# Altium schematic symbol library GpioPowerAddonLib.SchLib: 29 symbols
Pins are listed as number, name and electrical type; pins without a type are passive.

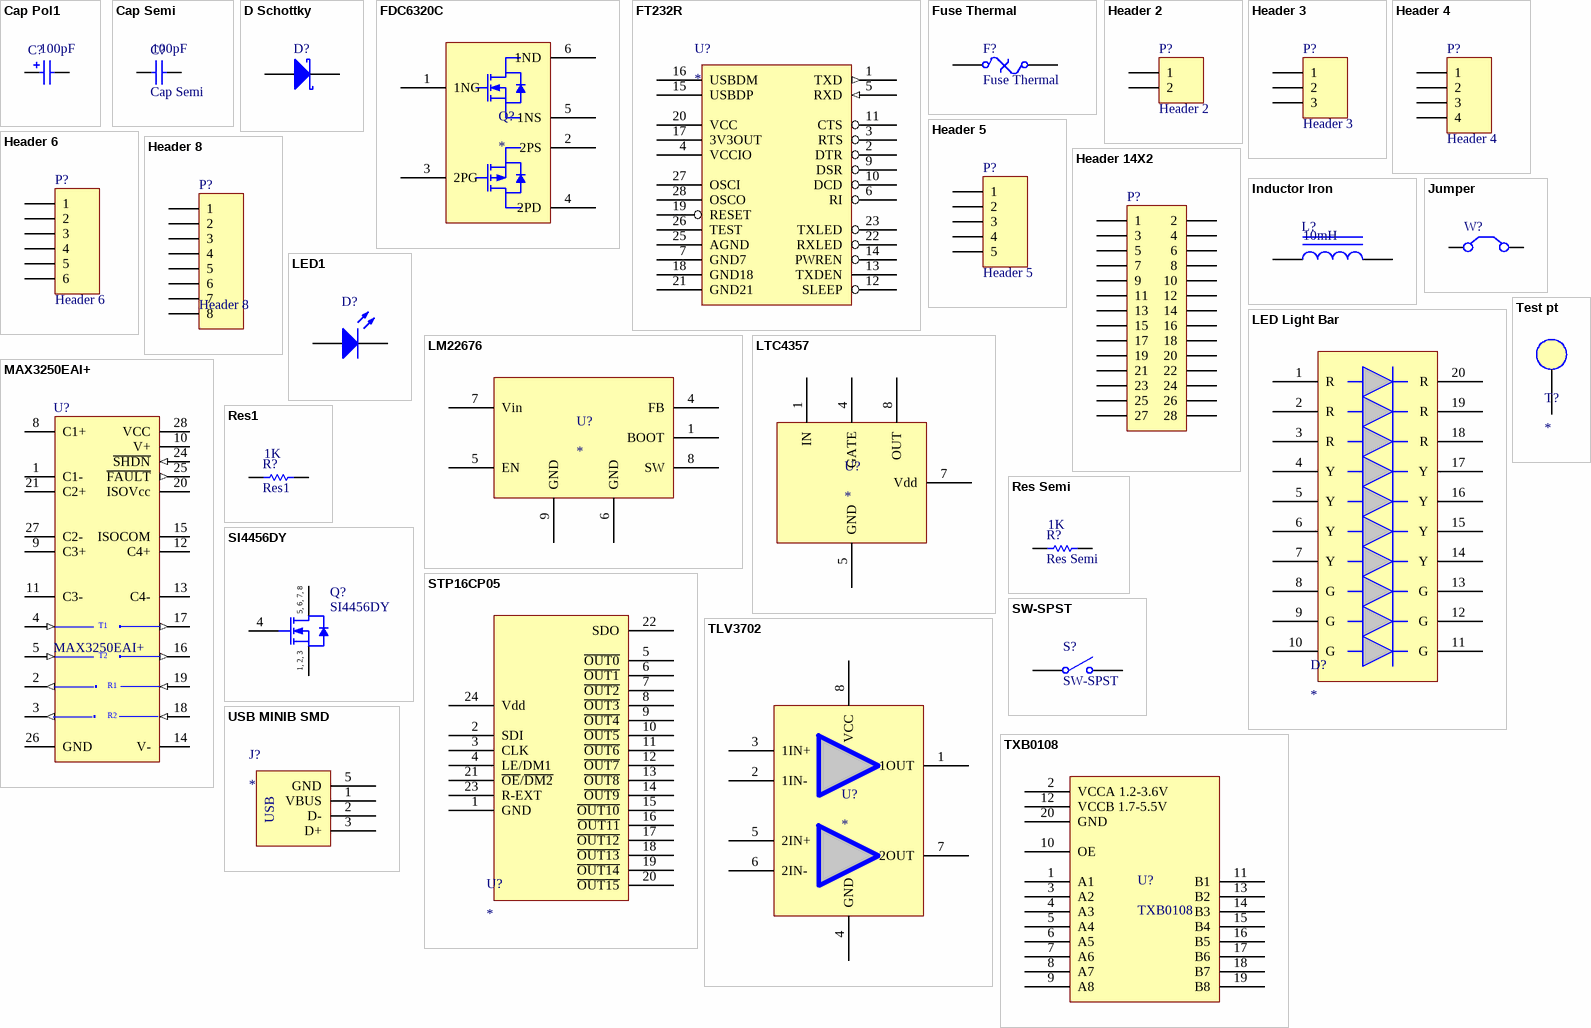
[diagram p0: symbols Cap Pol1 to USB MINIB SMD]

## Cap Pol1
designator C?  value 100pF
Polarized Capacitor (Radial); Published: 8-Jun-2000; LatestRevisionDate: 17-Jul-2002; LatestRevisionNote: Re-released for DXP Platform.; PackageReference: RB7.6-15; Publisher: Altium Limited
footprint CAPPR2-5x6.8 (Capacitor, Electrolytic, Radial; Body 5 x 6.8 mm (Dia.xH typ); Pin Spacing 2 mm (typ))
pins: 1, 2
1 alternate drawing of the same symbol

## Cap Semi
designator C?  value 100pF
Capacitor (Semiconductor SIM Model); Published: 8-Jun-2000; LatestRevisionDate: 29-May-2009; LatestRevisionNote: IPC-7351 Footprint Added.; PackageReference: C1206; Publisher: Altium Limited; PackageDescription: Chip Capacitor
simulation model CAP (Semiconductor Capacitor)
signal-integrity model Cap Semi
footprint CAPC1608L (Chip Capacitor, Body 1.6x0.8mm, (0603) IPC High Density)
footprint CAPC2012L (Chip Capacitor, Body 2.0x1.3mm, (0805) IPC High Density)
footprint CAPC3216L (Chip Capacitor, Body 3.2x1.6mm, (1206) IPC High Density)
footprint CAPC4532L (Chip Capacitor, Body 4.5x3.2mm, (1812) IPC High Density)
pins: 1, 2

## D Schottky
designator D?
Schottky Diode; Published: 8-Jun-2000; LatestRevisionDate: 17-Jul-2002; LatestRevisionNote: Re-released for DXP Platform.; PackageReference: SMB; Publisher: Altium Limited; Code_JEDEC: DO-214-AA
footprint DSO-C2/X2.3 (DO-214-AA/SMB; 2 C-Bend Leads; Body 5.3 x 3.6 mm, inc. leads (LxW))
simulation model SKYDIODE (Diode)
signal-integrity model D Schottky
footprint SMB (Diode, SMB Schottkey)
footprint SMA (Diode, SMA Schottkey)
pins: A, K

## FDC6320C
designator Q?
MOSFET Small Signal SSOT-6 COMP N-P-CH
footprint SSOT6 (Super Small Outline; 6 Leads; Body Width 3 mm; Pitch 0.95 mm)
pins: 1 1NG, 2 2PS, 3 2PG, 4 2PD, 5 1NS, 6 1ND

## FT232R
designator U?
FT232R USB UART IC
footprint SSOP28_N (SOP, 28-Leads, Body 10.2x5.3mm, Pitch 0.65mm, IPC Medium Density)
footprint SSOP28_L (SOP, 28-Leads, Body 10.2x5.3mm, Pitch 0.65mm, IPC High Density)
footprint SSOP28_M (SOP, 28-Leads, Body 10.2x5.3mm, Pitch 0.65mm, IPC Low Density)
pins: 1 TXD (out), 2 DTR, 3 RTS, 4 VCCIO, 5 RXD (in), 6 RI, 7 GND7, 9 DSR, 10 DCD, 11 CTS, 12 SLEEP, 13 TXDEN, 14 PWREN, 15 USBDP, 16 USBDM, 17 3V3OUT, 18 GND18, 19 RESET, 20 VCC, 21 GND21, 22 RXLED, 23 TXLED, 25 AGND, 26 TEST, 27 OSCI, 28 OSCO

## Fuse Thermal
designator F?
PTC Thermal Fuse; Published: 24-Mar-1999; LatestRevisionDate: 17-Jul-2002; LatestRevisionNote: Re-released for DXP Platform.; PackageReference: PIN-W2/E2.8; Publisher: Altium Limited
footprint CAPC3216L (Chip Capacitor, Body 3.2x1.6mm, (1206) IPC High Density)
footprint 2920L (Chip  Body 7.98x5.44mm, IPC High Density)
footprint CAPC4532L (Chip Capacitor, Body 4.5x3.2mm, (1812) IPC High Density)
pins: 1, 2

## Header 2
designator P?
Header, 2-Pin; LatestRevisionDate: 17-Jul-2002; LatestRevisionNote: Re-released for DXP Platform.; Publisher: Altium Limited
footprint Connector Molex 2
pins: 1, 2

## Header 3
designator P?
Header, 3-Pin; LatestRevisionDate: 17-Jul-2002; LatestRevisionNote: Re-released for DXP Platform.; Publisher: Altium Limited
footprint HDR1X3 (Connector; Header; 3 Position)
signal-integrity model Connector
footprint Connector Molex 3
pins: 1, 2, 3

## Header 4
designator P?
Header, 4-Pin; LatestRevisionDate: 17-Jul-2002; LatestRevisionNote: Re-released for DXP Platform.; Publisher: Altium Limited
footprint HDR1X4 (Connector; Header; 4 Position)
signal-integrity model Connector
footprint Connector Molex 4
pins: 1, 2, 3, 4

## Header 5
designator P?
Header, 5-Pin; LatestRevisionDate: 17-Jul-2002; LatestRevisionNote: Re-released for DXP Platform.; Publisher: Altium Limited
footprint HDR1X5 (Connector; Header; 5 Position)
signal-integrity model Connector
footprint Connector Molex 5
pins: 1, 2, 3, 4, 5

## Header 6
designator P?
Header, 6-Pin; LatestRevisionDate: 17-Jul-2002; LatestRevisionNote: Re-released for DXP Platform.; Publisher: Altium Limited
footprint HDR1X6 (Connector; Header; 6 Position)
signal-integrity model Connector
footprint Connector Molex 6
pins: 1, 2, 3, 4, 5, 6

## Header 8
designator P?
Header, 8-Pin; LatestRevisionDate: 17-Jul-2002; LatestRevisionNote: Re-released for DXP Platform.; Publisher: Altium Limited
signal-integrity model Connector
footprint Connector Molex 8
pins: 1, 2, 3, 4, 5, 6, 7, 8

## Header 14X2
designator P?
Header, 14-Pin, Dual row; LatestRevisionDate: 17-Jul-2002; LatestRevisionNote: Re-released for DXP Platform.; Publisher: Altium Limited
footprint HDR2X14 (Connector; Header; 14x2 Position)
signal-integrity model Connector
pins: 1, 2, 3, 4, 5, 6, 7, 8, 9, 10, 11, 12, 13, 14, 15, 16, 17, 18, 19, 20, 21, 22, 23, 24, 25, 26, 27, 28

## Inductor Iron
designator L?  value 10mH
Magnetic-Core Inductor; Published: 24-Mar-1999; LatestRevisionDate: 17-Jul-2002; LatestRevisionNote: Re-released for DXP Platform.; PackageReference: AXIAL-0.9; Publisher: Altium Limited
footprint SRR1260 (Power Inductor, Body 12.5x12.5mm)
pins: 1, 2

## Jumper
designator W?
Jumper Wire; Published: 24-Mar-1999; LatestRevisionDate: 17-Jul-2002; LatestRevisionNote: Re-released for DXP Platform.; PackageReference: RAD-0.2; Publisher: Altium Limited
footprint RAD-0.2 (Radial Cap, Thru-Hole; 2 Leads; 0.2 in Pin Spacing)
pins: 1 C1, 2 C2

## LED1
designator D?
Typical RED GaAs LED; Published: 8-Jun-2000; LatestRevisionDate: 08-Jul-2005; LatestRevisionNote: Mech Layer 1 removed.; PackageReference: LED-1; Publisher: Altium Limited
footprint LED-Polarized
footprint 1206 - LED
pins: A, K

## LED Light Bar
designator D?
10 Seg Display SSA-LXB10I3Y4G3W-GF
footprint LED Bar (10 Segments LED Display Bar)
pins: 1 R, 2 R, 3 R, 4 Y, 5 Y, 6 Y, 7 Y, 8 G, 9 G, 10 G, 11 G, 12 G, 13 G, 14 Y, 15 Y, 16 Y, 17 Y, 18 R, 19 R, 20 R

## LM22676
designator U?
3A SIMPLE SWITCHER
footprint LM22676
pins: 1 BOOT, 4 FB, 5 EN, 6 GND, 7 Vin, 8 SW, 9 GND

## LTC4357
designator U?
IC IDEAL DIODE CNTRLR 8-MSOP
footprint MSOP8 (Shrink Small Outline; 8 Leads; Body Width 3 mm; Pitch 0.65 mm)
pins: 1 IN, 4 GATE, 5 GND, 7 Vdd, 8 OUT

## MAX3250EAI+
designator U?
±50V Isolated, 3.0V to 5.5V,  250kbps, 2 Tx/2 Rx, RS-232 Transceiver; Published: 16-Jan-2001; LatestRevisionDate: 29-May-2009; LatestRevisionNote: Component Body Added.; DatasheetVersion: Nov-1997; PackageVersion: Aug-2000; PackageReference: PE16; Publisher: Altium Limited; PackageDescription: DIP, 16-Pin, Row Spacing 7.62 mm, Pitch 2.54 mm; Code_JEDEC: MS-001-BB; ComponentLink1Description: Manufacturer Link; ComponentLink1URL: http://www.maxim-ic.com/; ComponentLink2Description: Datasheet; ComponentLink2URL: http://pdfserv.maxim-ic.com/en/ds/MAX220-MAX249.pdf
footprint SSOP28_L (SOP, 28-Leads, Body 10.2x5.3mm, Pitch 0.65mm, IPC High Density)
footprint SSOP28_M (SOP, 28-Leads, Body 10.2x5.3mm, Pitch 0.65mm, IPC Low Density)
footprint SSOP28_N (SOP, 28-Leads, Body 10.2x5.3mm, Pitch 0.65mm, IPC Medium Density)
pins: 1 C1-, 2 R1OUT (out), 3 R2OUT (out), 4 T1IN (in), 5 T2IN (in), 8 C1+, 9 C3+, 10 V+ (power), 11 C3-, 12 C4+, 13 C4-, 14 V- (power), 15 ISOCOM, 16 T2OUT (out), 17 T1OUT (out), 18 R2IN (in), 19 R1IN (in), 20 ISOVcc, 21 C2+, 24 ~{SHDN} (in), 25 ~{FAULT} (out), 26 GND (power), 27 C2-, 28 VCC (power)
text: T1; T2; R1; R2

## Res1
designator R?  value 1K
Resistor; Published: 8-Jun-2000; LatestRevisionDate: 17-Jul-2002; LatestRevisionNote: Re-released for DXP Platform.; PackageReference: AXIAL-0.3; Publisher: Altium Limited
footprint AXIAL-0.3 (Axial Device, Thru-Hole; 2 Leads; 0.3 in Pin Spacing)
simulation model RESISTOR (Resistor)
signal-integrity model Res
pins: 1, 2

## Res Semi
designator R?  value 1K
Semiconductor Resistor; Published: 8-Jun-2000; LatestRevisionDate: 17-Jul-2002; LatestRevisionNote: Re-released for DXP Platform.; PackageReference: AXIAL-0.5; Publisher: Altium Limited
simulation model RES (Semiconductor Resistor)
signal-integrity model Res Semi
footprint RESC1608L (Chip Resistor, Body 1.6x0.8mm, (0603) IPC High Density)
footprint RESC2012N (Chip Resistor, Body 2.0x1.2mm, (0805) IPC Medium Density)
footprint RESC3216L (Chip Resistor, Body 3.1x1.6mm, (1206) IPC High Density)
pins: 1, 2

## SI4456DY
designator Q?
N-Channel 40V (D-S) Rated  MOSFET; Published: 8-Jun-2000; LatestRevisionDate: 13-Apr-2006; LatestRevisionNote: IPC-7351 Footprint Added.; DatasheetVersion: 6-Oct-1997; PackageVersion: Aug-1998; PackageReference: SO-8; Publisher: Altium Limited; PackageDescription: 8-Pin Small Outline Integrated Circuit 1.27 mm Pitch; ComponentLink1Description: Manufacturer Link; ComponentLink1URL: http://www.vishay.com/; ComponentLink2Description: Datasheet; ComponentLink2URL: http://www.vishay.com/docs/70144/70144.pdf
footprint SO-8_N (SOIC, 8-Leads, Body 4.9x3.9mm, Pitch 1.27mm, IPC Medium Density)
footprint SO-8_L (SOIC, 8-Leads, Body 4.9x3.9mm, Pitch 1.27mm, IPC High Density)
footprint SO-8_M (SOIC, 8-Leads, Body 4.9x3.9mm, Pitch 1.27mm, IPC Low Density)
3D model SO-8 (8-Pin Small Outline Integrated Circuit 1.27 mm Pitch)
simulation model SI4450DY (SUBCKT)
pins: 1 S, 2 S, 3 S, 4 G, 5 D, 6 D, 7 D, 8 D
text: 5, 6, 7, 8; 1, 2, 3

## STP16CP05
designator U?
LED Drivers LV 16-BIT LED SINK DRIVER
footprint SO24_L (24-Pin Plastic Small Outline Integrated Circuit 1.27 mm Pitch, IPC High Density)
footprint SO24_M (24-Pin Plastic Small Outline Integrated Circuit 1.27 mm Pitch, IPC Low Density)
footprint SO24_N (24-Pin Plastic Small Outline Integrated Circuit 1.27 mm Pitch, IPC Medium Density)
pins: 1 GND (power), 2 SDI, 3 CLK, 4 LE/DM1, 5 ~{OUT0}, 6 ~{OUT1}, 7 ~{OUT2}, 8 ~{OUT3}, 9 ~{OUT4}, 10 ~{OUT5}, 11 ~{OUT6}, 12 ~{OUT7}, 13 ~{OUT8}, 14 ~{OUT9}, 15 ~{OUT10}, 16 ~{OUT11}, 17 ~{OUT12}, 18 ~{OUT13}, 19 ~{OUT14}, 20 ~{OUT15}, 21 ~{OE}/~{DM2}, 22 SDO, 23 R-EXT, 24 Vdd (power)

## SW-SPST
designator S?
Single-Pole, Single-Throw Switch; Published: 24-Mar-1999; LatestRevisionDate: 17-Jul-2002; LatestRevisionNote: Re-released for DXP Platform.; PackageReference: SPST-2; Publisher: Altium Limited
footprint SPST-2 (Circuit Breaker; 2 Leads)
pins: 1 COMMON, 2 NO

## Test pt
designator T?
footprint Testpt
pins: 1

## TLV3702
designator U?
Comparator ICs Dual Nanopower Push-Pull Comparator
footprint SO-8_N (SOIC, 8-Leads, Body 4.9x3.9mm, Pitch 1.27mm, IPC Medium Density)
pins: 1 1OUT, 2 1IN-, 3 1IN+, 4 GND, 5 2IN+, 6 2IN-, 7 2OUT, 8 VCC

## TXB0108
designator U?
Voltage Level Shifter
footprint TSSOP20
pins: 1 A1, 2 VCCA 1.2-3.6V, 3 A2, 4 A3, 5 A4, 6 A5, 7 A6, 8 A7, 9 A8, 10 OE, 11 B1, 12 VCCB 1.7-5.5V, 13 B2, 14 B3, 15 B4, 16 B5, 17 B6, 18 B7, 19 B8, 20 GND

## USB MINIB SMD
designator J?
USB miniB SMD connector
footprint USB miniB SMD (USB miniB SMD connector)
pins: 1 VBUS, 2 D-, 3 D+, 5 GND
text: USB